# Altium schematic symbol library 74HC4514PW_118.SchLib: 1 symbol
Pins are listed as number, name and electrical type; pins without a type are passive.

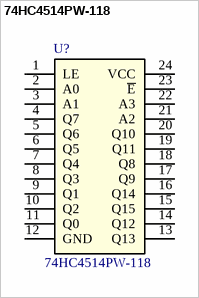
[diagram p0: symbol 74HC4514PW-118]

## 74HC4514PW-118
designator U?
74HC(T)4514 - 4-to-16 line decoder/demultiplexer with input latches@en-us; Manufacturer_Name: Nexperia; Manufacturer_Part_Number: 74HC4514PW,118; Geometry.Height: 1.1mm; Mouser Part Number: 771-HC4514PW118; Mouser Price/Stock: https://www.mouser.co.uk/ProductDetail/Nexperia/74HC4514PW118?qs=P62ublwmbi%2F4NHTNGiPEGA%3D%3D; Datasheet Link: https://assets.nexperia.com/documents/data-sheet/74HC_HCT4514.pdf
footprint SOP65P640X110-24N
pins: 1 LE, 2 A0, 3 A1, 4 Q7, 5 Q6, 6 Q5, 7 Q4, 8 Q3, 9 Q1, 10 Q2, 11 Q0, 12 GND, 13 Q13, 14 Q12, 15 Q15, 16 Q14, 17 Q9, 18 Q8, 19 Q11, 20 Q10, 21 A2, 22 A3, 23 ~{E}, 24 VCC